# EAGLE library part TLW-103-05-G-D (library SAMTEC-Txx_By_element14_Batch_1)
LOW PROFILE HEADER, 6 way
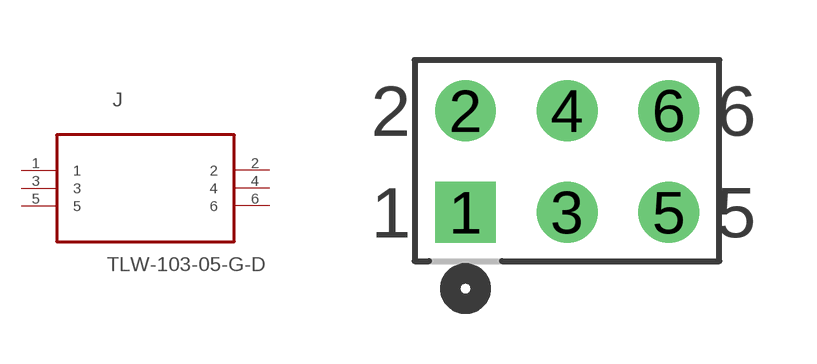
[diagram p128: symbol with the pads of SAMTEC_TLW-103-05-G-D; footprint SAMTEC_TLW-103-05-G-D]

Designator prefix J

## TLW-103-05-G-D (MPN: TLW-103-05-G-D; OC_FARNELL: 1668489; OC_NEWARK: 12P0381; PACKAGE: LOW PROFILE HEADER; SUPPLIER: SAMTEC)  [SAMTEC_TLW-103-05-G-D]
1  1  pas
2  2  pas
3  3  pas
4  4  pas
5  5  pas
6  6  pas

## Footprint SAMTEC_TLW-103-05-G-D (pad centres in mm)
drill 1.016 square: 1 -5.08,-2.54
drill 1.016: 2 -5.08,0; 3 -2.54,-2.54; 4 -2.54,0; 5 0,-2.54; 6 0,0